# Altium schematic symbol library Capacitors.SchLib: 161 symbols (part 2 of 6)
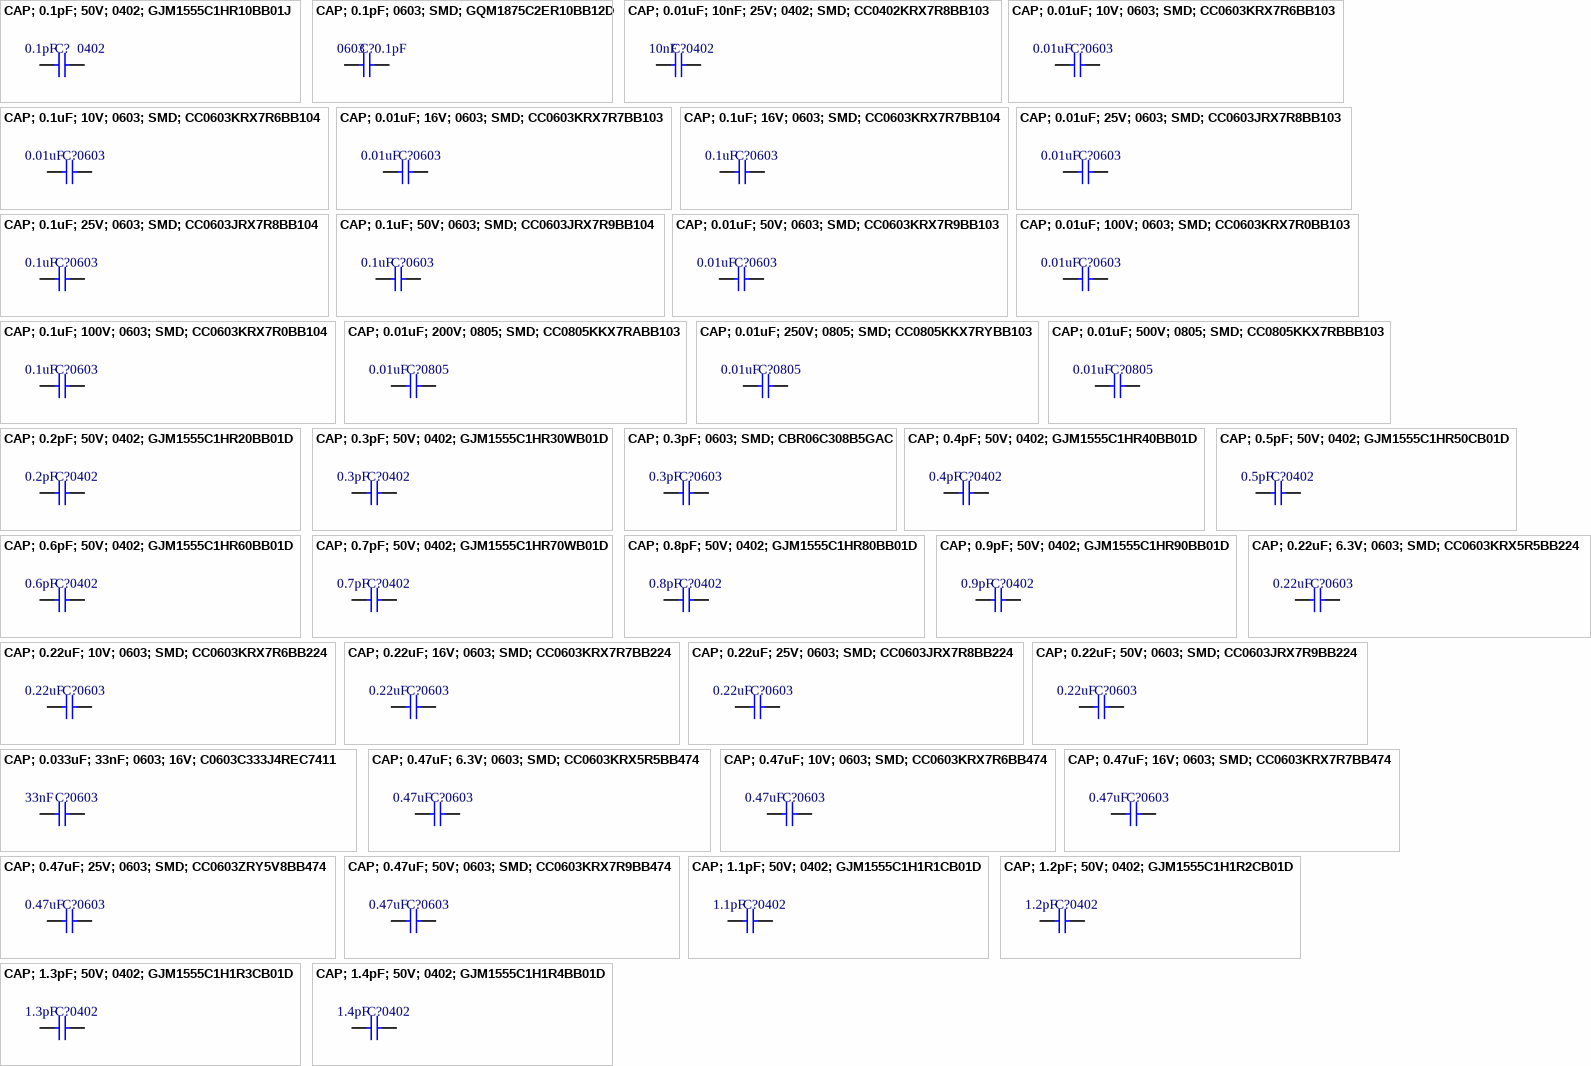
[diagram p5: symbols CAP; 0.1pF; 50V; 0402; GJM1555C1HR10BB01J to CAP; 1.4pF; 50V; 0402; GJM1555C1H1R4BB01D]

## CAP; 0.22uF; 25V; 0603; SMD; CC0603JRX7R8BB224
designator C?, comment value 0.22uF  Package: 0603  (hidden comment: 0.22 µF ±5% 25V Ceramic Capacitor X7R 0603 (1608 Metric))
Multilayer Ceramic Capacitor, 0.22 uF, 25 V, ± 5%, X7R, 0603 [1608 Metric]; Manufacturer: Yageo; Manufacturer Part Number: CC0603JRX7R8BB224; Designer: TVBac; Supplier: Digikey; Supplier Part Number: 311-3999-1-ND; RoHS: Yes; Category: Ceramic Capacitors; Stock: 82480; Pricing: 1=0.14, 10=0.092, 50=0.055, 100=0.0433, 500=0.03194, 1000=0.02644 (USD); Mounting Technology: Surface Mount; Case/Package: 0603; Case Code (Imperial): 0603; Case Code (Metric): 1608; Min Operating Temperature: -55°C; Max Operating Temperature: 125°C; Packaging: Tape and Reel; Voltage Rating: 25V; Tolerance: 5%; Voltage Rating (DC): 25V; Dielectric: X7R; Series: CC; Length: 0.063inch; Width: 0.031inch; Thickness: 0.035inch; Lead Free: Lead Free; Halogen Free: Halogen Free; ComponentLink1URL: https://www.yageo.com/upload/media/product/productsearch/datasheet/mlcc/UPY-GPHC_X7R_6.3V-to-50V_18.pdf?src-supplier=Digikey; ComponentLink1Description: https://www.yageo.com/upload/media/product/productsearch/datasheet/mlcc/UPY-GPHC_X7R_6.3V-to-50V_18.pdf?src-supplier=Digikey; ComponentLink2URL: http://www.yageo.com/documents/recent/UPY-GPHC_X7R_6.3V-to-50V_18.pdf?src-supplier=Digikey; ComponentLink2Description: http://www.yageo.com/documents/recent/UPY-GPHC_X7R_6.3V-to-50V_18.pdf?src-supplier=Digikey; ComponentLink3URL: http://www.yageo.com/exep/pages/download/literatures/ProductSelectionGuide%202014_Final_2.pdf?src-supplier=Digikey; ComponentLink3Description: http://www.yageo.com/exep/pages/download/literatures/ProductSelectionGuide%202014_Final_2.pdf?src-supplier=Digikey; ComponentLink4Description: Link Digikey; ComponentLink4URL: https://www.digikey.com/en/products/detail/yageo/CC0603JRX7R8BB224/5883662
footprint SMD-CAP-0603-YAGEO
pins: 1, 2

## CAP; 0.22uF; 50V; 0603; SMD; CC0603JRX7R9BB224
designator C?, comment value 0.22uF  Package: 0603  (hidden comment: 0.22 µF ±5% 50V Ceramic Capacitor X7R 0603 (1608 Metric))
Surface Mount Ceramic Multilayer Capacitor 0.22uF 5% X7R 50V 0603 Paper T/R; Manufacturer: Yageo; Manufacturer Part Number: CC0603JRX7R9BB224; Dielectric: 1511DielectricType; Designer: TVBac; Supplier: Digikey; Supplier Part Number: 13-CC0603JRX7R9BB224CT-ND; RoHS: Yes; Category: Ceramic Capacitors; Stock: 26044; Pricing: 1=0.19, 10=0.126, 50=0.0756, 100=0.0594, 500=0.0439, 1000=0.03634 (USD); Case/Package: 345Case; Voltage Rating (DC): 50V; Halogen Free: 5694HalogenFree; Lead Free: 5697LeadFree; ComponentLink1URL: https://datasheet.octopart.com/CC0603JRX7R9BB224-Yageo-datasheet-151948686.pdf?src-supplier=Farnell; ComponentLink1Description: https://datasheet.octopart.com/CC0603JRX7R9BB224-Yageo-datasheet-151948686.pdf?src-supplier=Farnell; ComponentLink2Description: Link Digikey; ComponentLink2URL: https://www.digikey.com/en/products/detail/yageo/CC0603JRX7R9BB224/11490865
footprint SMD-CAP-0603-YAGEO
pins: 1, 2

## CAP; 0.033uF; 33nF; 0603; 16V; C0603C333J4REC7411
designator C?, comment value 33nF  Package: 0603  (hidden comment: 0.033 µF ±5% 16V Ceramic Capacitor X7R 0603 (1608 Metric))
Multilayer Ceramic Capacitors MLCC - SMD/SMT 16V 0.033uF X7R 0603 5%; Manufacturer: KEMET; Manufacturer Part Number: C0603C333J4REC7411; Designer: TVBac; Supplier: Mouser; Supplier Part Number: 80-C0603C333J4RECLR; RoHS: Yes; Category: Ceramic Capacitors; Stock: 17910; Pricing: 1=0.13, 10=0.057, 50=0.057, 100=0.033, 1000=0.025, 2500=0.022, 10000=0.02, 15000=0.018, 45000=0.017, 90000=0.014 (USD); ComponentLink1URL: https://api.kemet.com/component-edge/download/datasheet/C0603C333J4REC7411.pdf?src-supplier=Digikey; ComponentLink1Description: https://api.kemet.com/component-edge/download/datasheet/C0603C333J4REC7411.pdf?src-supplier=Digikey; ComponentLink2Description: Link Digikey; ComponentLink2URL: https://www.digikey.com/en/products/detail/kemet/C0603C333J4REC7411/8645086
footprint SMD-CAP-0603-KEMET
pins: 1, 2

## CAP; 0.47uF; 6.3V; 0603; SMD; CC0603KRX5R5BB474
designator C?, comment value 0.47uF  Package: 0603  (hidden comment: 0.47 µF ±10% 6.3V Ceramic Capacitor X5R 0603 (1608 Metric))
Multilayer Ceramic Capacitor, 0.47 uF, 6.3 V, ± 10%, X5R, 0603 [1608 Metric]; Manufacturer: Yageo; Manufacturer Part Number: CC0603KRX5R5BB474; Material: 4241ConductorMaterial; Designer: TVBac; Supplier: Digikey; Supplier Part Number: 311-4040-1-ND; RoHS: Yes; Category: Ceramic Capacitors; Stock: 7492; Pricing: 1=0.15, 10=0.102, 50=0.061, 100=0.0481, 500=0.03548, 1000=0.02938 (USD); ComponentLink1URL: http://www.mouser.com/ds/2/447/UPY-GPHC_X5R_4V-to-50V_25-1131599.pdf?src-supplier=Mouser; ComponentLink1Description: http://www.mouser.com/ds/2/447/UPY-GPHC_X5R_4V-to-50V_25-1131599.pdf?src-supplier=Mouser; ComponentLink2URL: http://www.yageo.com/documents/recent/UPY-GPHC_X5R_4V-to-50V_25.pdf?src-supplier=Digikey; ComponentLink2Description: http://www.yageo.com/documents/recent/UPY-GPHC_X5R_4V-to-50V_25.pdf?src-supplier=Digikey; ComponentLink3URL: https://www.yageo.com/upload/media/product/productsearch/datasheet/mlcc/UPY-GPHC_X5R_4V-to-50V_26.pdf?src-supplier=Digikey; ComponentLink3Description: https://www.yageo.com/upload/media/product/productsearch/datasheet/mlcc/UPY-GPHC_X5R_4V-to-50V_26.pdf?src-supplier=Digikey; ComponentLink4URL: http://www.yageo.com/exep/pages/download/literatures/ProductSelectionGuide%202014_Final_2.pdf?src-supplier=Digikey; ComponentLink4Description: http://www.yageo.com/exep/pages/download/literatures/ProductSelectionGuide%202014_Final_2.pdf?src-supplier=Digikey; ComponentLink5URL: https://datasheet.octopart.com/CC0603KRX5R5BB474-Yageo-datasheet-137875056.pdf?src-supplier=Future+Electronics; ComponentLink5Description: https://datasheet.octopart.com/CC0603KRX5R5BB474-Yageo-datasheet-137875056.pdf?src-supplier=Future+Electronics; ComponentLink6URL: http://www.yageo.com/documents/recent/UPY-GPHC_X5R_4V-to-50V-16.pdf?src-supplier=Future+Electronics; ComponentLink6Description: http://www.yageo.com/documents/recent/UPY-GPHC_X5R_4V-to-50V-16.pdf?src-supplier=Future+Electronics; ComponentLink7Description: Link Digikey; ComponentLink7URL: https://www.digikey.com/en/products/detail/yageo/CC0603KRX5R5BB474/5883718
footprint SMD-CAP-0603-YAGEO
pins: 1, 2

## CAP; 0.47uF; 10V; 0603; SMD; CC0603KRX7R6BB474
designator C?, comment value 0.47uF  Package: 0603  (hidden comment: 0.47 µF ±10% 10V Ceramic Capacitor X7R 0603 (1608 Metric))
Multilayer Ceramic Capacitor, 0.47 uF, 10 V, ± 10%, X7R, 0603 [1608 Metric]; Manufacturer: Yageo; Manufacturer Part Number: CC0603KRX7R6BB474; Material: 4241ConductorMaterial; Designer: TVBac; Supplier: Digikey; Supplier Part Number: 311-1798-1-ND; RoHS: Yes; Category: Ceramic Capacitors; Stock: 103532; Pricing: 1=0.17, 10=0.116, 50=0.0694, 100=0.0546, 500=0.04036, 1000=0.03341 (USD); ComponentLink1URL: https://datasheet.ciiva.com/26862/getdatasheetpartid-251789-26862825.pdf?src-supplier=Verical; ComponentLink1Description: https://datasheet.ciiva.com/26862/getdatasheetpartid-251789-26862825.pdf?src-supplier=Verical; ComponentLink2URL: https://datasheet.ciiva.com/11786/0900766b80ce67ed-11786214.pdf?src-supplier=Rs; ComponentLink2Description: https://datasheet.ciiva.com/11786/0900766b80ce67ed-11786214.pdf?src-supplier=Rs; ComponentLink3URL: https://datasheet.ciiva.com/7978/1489800-7978137.pdf?src-supplier=Element14; ComponentLink3Description: https://datasheet.ciiva.com/7978/1489800-7978137.pdf?src-supplier=Element14; ComponentLink4URL: https://datasheet.ciiva.com/13209/upy-gphc-x7r-6-3v-to-50v-8-12304-13209775.pdf?src-supplier=Mouser; ComponentLink4Description: https://datasheet.ciiva.com/13209/upy-gphc-x7r-6-3v-to-50v-8-12304-13209775.pdf?src-supplier=Mouser; ComponentLink5Description: Link Digikey; ComponentLink5URL: https://www.digikey.com/en/products/detail/yageo/CC0603KRX7R6BB474/5195206
footprint SMD-CAP-0603-YAGEO
pins: 1, 2

## CAP; 0.47uF; 16V; 0603; SMD; CC0603KRX7R7BB474
designator C?, comment value 0.47uF  Package: 0603  (hidden comment: 0.47 µF ±10% 16V Ceramic Capacitor X7R 0603 (1608 Metric))
Multilayer Ceramic Capacitor, 0.47 uF, 16 V, ± 10%, X7R, 0603 [1608 Metric]; Manufacturer: Yageo; Manufacturer Part Number: CC0603KRX7R7BB474; Material: 4241ConductorMaterial; Designer: TVBac; Supplier: Digikey; Supplier Part Number: 311-1428-1-ND; RoHS: Yes; Category: Ceramic Capacitors; Stock: 23887; Pricing: 1=0.16, 10=0.11, 50=0.066, 100=0.0519, 500=0.03832, 1000=0.03173, 4000=0.02701, 8000=0.02513, 12000=0.02387, 28000=0.02262, 100000=0.01713, 200000=0.01671, 400000=0.01571 (USD); Voltage Rating (DC): 16V; Lead Free: 5697LeadFree; Halogen Free: 5694HalogenFree; ComponentLink1URL: https://datasheet.ciiva.com/26862/getdatasheetpartid-403574-26862831.pdf?src-supplier=Verical; ComponentLink1Description: https://datasheet.ciiva.com/26862/getdatasheetpartid-403574-26862831.pdf?src-supplier=Verical; ComponentLink2URL: https://datasheet.ciiva.com/176/mlccorderingcode-176901.pdf?src-supplier=Digikey; ComponentLink2Description: https://datasheet.ciiva.com/176/mlccorderingcode-176901.pdf?src-supplier=Digikey; ComponentLink3URL: https://datasheet.ciiva.com/176/mlccorderingcode-176902.pdf?src-supplier=Digikey; ComponentLink3Description: https://datasheet.ciiva.com/176/mlccorderingcode-176902.pdf?src-supplier=Digikey; ComponentLink4URL: https://datasheet.ciiva.com/176/mlccorderingcode-176903.pdf?src-supplier=Digikey; ComponentLink4Description: https://datasheet.ciiva.com/176/mlccorderingcode-176903.pdf?src-supplier=Digikey; ComponentLink5Description: Link Digikey; ComponentLink5URL: https://www.digikey.com/en/products/detail/yageo/CC0603KRX7R7BB474/2833593
footprint SMD-CAP-0603-YAGEO
pins: 1, 2

## CAP; 0.47uF; 25V; 0603; SMD; CC0603ZRY5V8BB474
designator C?, comment value 0.47uF  Package: 0603  (hidden comment: 0.47 µF -20%, +80% 25V Ceramic Capacitor Y5V (F) 0603 (1608 Metric))
CAP CER 0.47UF 25V Y5V 0603; Manufacturer: Yageo; Manufacturer Part Number: CC0603ZRY5V8BB474; Tolerance: 80%; Designer: TVBac; Supplier: Digikey; Supplier Part Number: 311-4119-1-ND; RoHS: Yes; Category: Ceramic Capacitors; Stock: 8693; Pricing: 1=0.11, 10=0.076, 50=0.0452, 100=0.0356, 500=0.02628, 1000=0.02175 (USD); Mounting Technology: Surface Mount; Case/Package: 0603; Case Code (Imperial): 0603; Case Code (Metric): 1608; Weight: 7.1E-05oz; Min Operating Temperature: -30°C; Max Operating Temperature: 85°C; Voltage Rating (DC): 25V; Packaging: Tape and Reel; Dielectric: Y5V; Termination: SMD/SMT; Voltage Rating: 25V; Series: CC; Length: 0.063inch; Width: 0.031inch; Thickness: 0.035inch; Lead Free: Lead Free; Halogen Free: Halogen Free; RoHS Compliant: Yes; ComponentLink1URL: http://www.mouser.com/ds/2/447/Yageo_UPY-GP_NP0_16V-to-50V_9-358835.pdf?src-supplier=Mouser; ComponentLink1Description: http://www.mouser.com/ds/2/447/Yageo_UPY-GP_NP0_16V-to-50V_9-358835.pdf?src-supplier=Mouser; ComponentLink2URL: http://www.yageo.com/documents/recent/UPY-GPHC_Y5V_6.3V-to-50V_8.pdf?src-supplier=Digikey; ComponentLink2Description: http://www.yageo.com/documents/recent/UPY-GPHC_Y5V_6.3V-to-50V_8.pdf?src-supplier=Digikey; ComponentLink3Description: Link Digikey; ComponentLink3URL: https://www.digikey.com/en/products/detail/yageo/CC0603ZRY5V8BB474/5883862
footprint SMD-CAP-0603-YAGEO
pins: 1, 2

## CAP; 0.47uF; 50V; 0603; SMD; CC0603KRX7R9BB474
designator C?, comment value 0.47uF  Package: 0603  (hidden comment: 0.47 µF ±10% 50V Ceramic Capacitor X7R 0603 (1608 Metric))
Multilayer Ceramic Capacitor, 0.47 uF, 50 V, ± 10%, X7R, 0603 [1608 Metric]; Manufacturer: Yageo; Manufacturer Part Number: CC0603KRX7R9BB474; Material: 4241ConductorMaterial; Dielectric: 1511DielectricType; Designer: TVBac; Supplier: Digikey; Supplier Part Number: 13-CC0603KRX7R9BB474CT-ND; RoHS: Yes; Category: Ceramic Capacitors; Stock: 38489; Pricing: 1=0.33, 10=0.22, 50=0.162, 100=0.1318, 500=0.10408, 1000=0.08789 (USD); Case/Package: 345Case; Min Operating Temperature: -55°C; Max Operating Temperature: 125°C; Voltage Rating: 50V; Voltage Rating (DC): 50V; Height: 900um; RoHS Compliant: Yes; Halogen Free: 5694HalogenFree; Lead Free: 5697LeadFree; ComponentLink1URL: https://datasheet.octopart.com/CC0603KRX7R9BB474-Yageo-datasheet-147453679.pdf?src-supplier=Newark; ComponentLink1Description: https://datasheet.octopart.com/CC0603KRX7R9BB474-Yageo-datasheet-147453679.pdf?src-supplier=Newark; ComponentLink2URL: https://datasheet.octopart.com/CC0603KRX7R9BB474-Yageo-datasheet-166511530.pdf?src-supplier=Future+Electronics; ComponentLink2Description: https://datasheet.octopart.com/CC0603KRX7R9BB474-Yageo-datasheet-166511530.pdf?src-supplier=Future+Electronics; ComponentLink3URL: https://datasheet.octopart.com/CC0603KRX7R9BB474-Yageo-datasheet-151948686.pdf?src-supplier=Farnell; ComponentLink3Description: https://datasheet.octopart.com/CC0603KRX7R9BB474-Yageo-datasheet-151948686.pdf?src-supplier=Farnell; ComponentLink4Description: Link Digikey; ComponentLink4URL: https://www.digikey.com/en/products/detail/yageo/CC0603KRX7R9BB474/12082403
footprint SMD-CAP-0603-YAGEO
pins: 1, 2

## CAP; 1.1pF; 50V; 0402; GJM1555C1H1R1CB01D
designator C?, comment value 1.1pF  Package: 0402  (hidden comment: Cap Ceramic 1.1pF 50V C0G 0.25pF SMD 0402 125°C Paper T/R)
Manufacturer: Murata; Manufacturer Part Number: GJM1555C1H1R1CB01D; Supplier: Mouser; Supplier Part Number: 81-GJM1555C1H1R1CB1D; RoHS: Yes; Category: Ceramic Capacitors; Stock: 17665; Pricing: 1=0.1, 10=0.032, 50=0.032, 100=0.021, 1000=0.013, 10000=0.007 (USD); ComponentLink1URL: https://datasheet.ciiva.com/132/product-132466.pdf?src-supplier=Digikey; ComponentLink1Description: https://datasheet.ciiva.com/132/product-132466.pdf?src-supplier=Digikey; ComponentLink2URL: https://datasheet.ciiva.com/132/partnumbering-e-01-132467.pdf?src-supplier=Digikey; ComponentLink2Description: https://datasheet.ciiva.com/132/partnumbering-e-01-132467.pdf?src-supplier=Digikey; ComponentLink3URL: https://datasheet.ciiva.com/132/partnumbering-e-01-132468.pdf?src-supplier=Digikey; ComponentLink3Description: https://datasheet.ciiva.com/132/partnumbering-e-01-132468.pdf?src-supplier=Digikey; Case Code (Imperial): 0402
footprint SMD-CAP-0402-ME
pins: 1, 2

## CAP; 1.2pF; 50V; 0402; GJM1555C1H1R2CB01D
designator C?, comment value 1.2pF  Package: 0402  (hidden comment: 0402 50 V 1.2 pF ±0.25 pF Tolerance C0G SMT Multilayer Ceramic Capacitor)
Manufacturer: Murata; Manufacturer Part Number: GJM1555C1H1R2CB01D; Material: 4241ConductorMaterial; Voltage Rating: 50V; Temperature Coefficient: 30ppm/°C; Supplier: Mouser; Supplier Part Number: 81-GJM1555C1H1R2CB1D; RoHS: Yes; Category: Ceramic Capacitors; Stock: 40199; Pricing: 1=0.11, 10=0.031, 50=0.031, 100=0.019, 1000=0.015, 10000=0.013 (USD); Mounting Technology: Surface Mount; Case/Package: 0402; Case Code (Imperial): 0402; Case Code (Metric): 1005; Min Operating Temperature: -55°C; Max Operating Temperature: 125°C; Packaging: Tape and Reel; Voltage Rating (DC): 50V; Package Quantity: 1; Dielectric: C0G; Termination: SMD/SMT; Voltage: 50V; Series: GJM; Construction: Flat; Length: 1mm; Width: 0.02inch; Height: 0.5mm; Thickness: 0.022inch; Depth: 0.5mm; Radiation Hardening: No; Lead Free: Lead Free; RoHS Compliant: Yes; ComponentLink1URL: https://datasheet.ciiva.com/132/product-132469.pdf?src-supplier=Digikey; ComponentLink1Description: https://datasheet.ciiva.com/132/product-132469.pdf?src-supplier=Digikey; ComponentLink2URL: https://datasheet.ciiva.com/132/partnumbering-e-01-132470.pdf?src-supplier=Digikey; ComponentLink2Description: https://datasheet.ciiva.com/132/partnumbering-e-01-132470.pdf?src-supplier=Digikey; ComponentLink3URL: https://datasheet.ciiva.com/132/partnumbering-e-01-132471.pdf?src-supplier=Digikey; ComponentLink3Description: https://datasheet.ciiva.com/132/partnumbering-e-01-132471.pdf?src-supplier=Digikey
footprint SMD-CAP-0402-ME
pins: 1, 2

## CAP; 1.3pF; 50V; 0402; GJM1555C1H1R3CB01D
designator C?, comment value 1.3pF  Package: 0402  (hidden comment: 0402 50 V 1.3 pF ±0.25 pF Tolerance C0G SMT Multilayer Ceramic Capacitor)
Manufacturer: Murata; Manufacturer Part Number: GJM1555C1H1R3CB01D; Supplier: Mouser; Supplier Part Number: 81-GJM1555C1H1R3CB1D; RoHS: Yes; Category: Ceramic Capacitors; Stock: 32928; Pricing: 1=0.1, 10=0.031, 50=0.031, 100=0.018, 1000=0.012, 10000=0.009 (USD); ComponentLink1URL: https://datasheet.ciiva.com/3778/8534gjm1555c1h1r3cb0123-3778203.pdf?src-supplier=Arrow+Electronics; ComponentLink1Description: https://datasheet.ciiva.com/3778/8534gjm1555c1h1r3cb0123-3778203.pdf?src-supplier=Arrow+Electronics; ComponentLink2URL: https://datasheet.ciiva.com/132/product-132400.pdf?src-supplier=Digikey; ComponentLink2Description: https://datasheet.ciiva.com/132/product-132400.pdf?src-supplier=Digikey; ComponentLink3URL: https://datasheet.ciiva.com/132/partnumbering-e-01-132401.pdf?src-supplier=Digikey; ComponentLink3Description: https://datasheet.ciiva.com/132/partnumbering-e-01-132401.pdf?src-supplier=Digikey; ComponentLink4URL: https://datasheet.ciiva.com/132/partnumbering-e-01-132402.pdf?src-supplier=Digikey; ComponentLink4Description: https://datasheet.ciiva.com/132/partnumbering-e-01-132402.pdf?src-supplier=Digikey; Case Code (Imperial): 0402
footprint SMD-CAP-0402-ME
pins: 1, 2

## CAP; 1.4pF; 50V; 0402; GJM1555C1H1R4BB01D
designator C?, comment value 1.4pF  Package: 0402  (hidden comment: Multilayer Ceramic Capacitors MLCC - SMD/SMT 0402 1.4pF 50Volts C0G +/-0.1pF)
Manufacturer: Murata; Manufacturer Part Number: GJM1555C1H1R4BB01D; Material: 4241ConductorMaterial; Supplier: Mouser; Supplier Part Number: 81-GJM1555C1H1R4BB1D; RoHS: Yes; Category: Ceramic Capacitors; Stock: 7436; Pricing: 1=0.1, 10=0.047, 50=0.047, 100=0.029, 1000=0.021, 10000=0.012 (USD); ComponentLink1URL: https://datasheet.ciiva.com/166/product-166994.pdf?src-supplier=Digikey; ComponentLink1Description: https://datasheet.ciiva.com/166/product-166994.pdf?src-supplier=Digikey; Case Code (Imperial): 0402
footprint SMD-CAP-0402-ME
pins: 1, 2

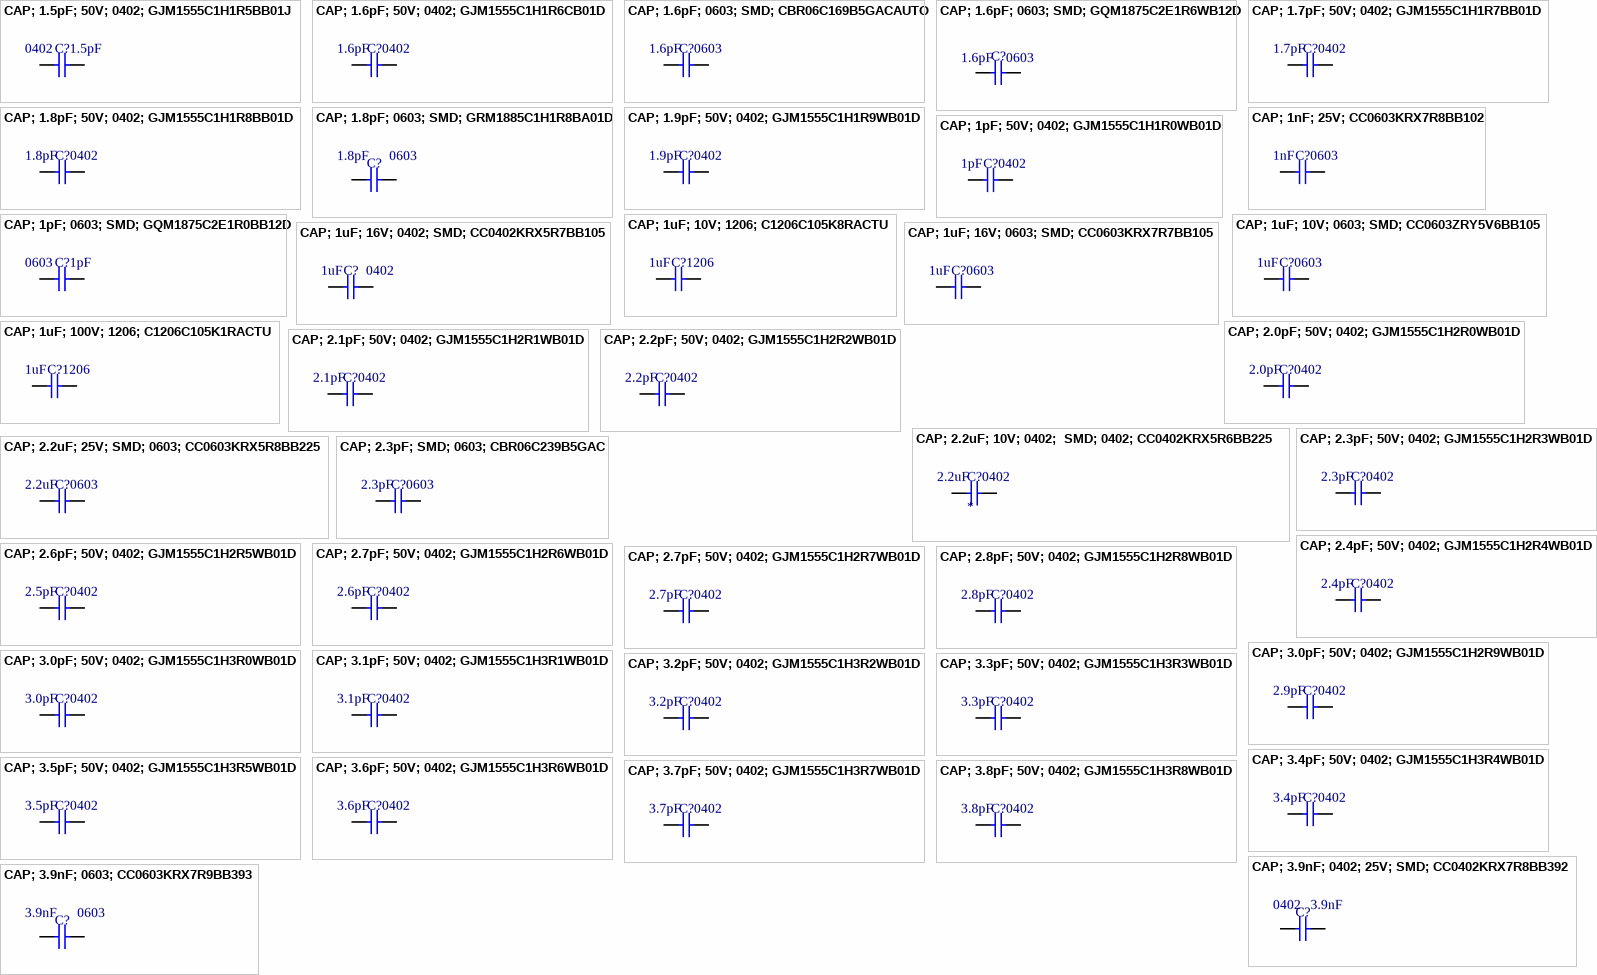
[diagram p1: symbols CAP; 1.5pF; 50V; 0402; GJM1555C1H1R5BB01J to CAP; 3.9nF; 0603; CC0603KRX7R9BB393]

## CAP; 1.5pF; 50V; 0402; GJM1555C1H1R5BB01J
designator C?, comment value 1.5pF  Package: 0402  (hidden comment: Cap Ceramic 1.5pF 50V C0G 0.1pF SMD 0402 125°C Paper T/R)
Manufacturer: Murata; Manufacturer Part Number: GJM1555C1H1R5BB01J; Material: 4241ConductorMaterial; Temperature Coefficient: 30ppm/°C; Supplier: Mouser; Supplier Part Number: 81-GJM1555C1H1R5BB1J; RoHS: Yes; Category: Ceramic Capacitors; Stock: 67799; Pricing: 1=0.1, 10=0.051, 50=0.051, 100=0.032, 500=0.027, 1000=0.021, 2500=0.018, 10000=0.017, 50000=0.017 (USD); Mounting Technology: Surface Mount; Case/Package: 0402; Case Code (Imperial): 0402; Case Code (Metric): 1005; Min Operating Temperature: -55°C; Max Operating Temperature: 125°C; Voltage Rating: 50V; Voltage Rating (DC): 50V; Packaging: Tape and Reel; Package Quantity: 50000; Dielectric: C0G; Termination: SMD/SMT; Series: GJM; Construction: Flat; Length: 1mm; Width: 0.5mm; Height: 0.5mm; Depth: 0.5mm; Thickness: 500um; Radiation Hardening: No; RoHS Compliant: Yes; ComponentLink1URL: http://www.mouser.com/ds/2/281/c02e-2905.pdf?src-supplier=Mouser; ComponentLink1Description: http://www.mouser.com/ds/2/281/c02e-2905.pdf?src-supplier=Mouser; ComponentLink2URL: http://search.murata.co.jp/Ceramy/image/img/PDF/ENG/GJM1555C1H1R5BB01.pdf?src-supplier=Avnet; ComponentLink2Description: http://search.murata.co.jp/Ceramy/image/img/PDF/ENG/GJM1555C1H1R5BB01.pdf?src-supplier=Avnet
footprint SMD-CAP-0402-ME
pins: 1, 2

## CAP; 1.6pF; 50V; 0402; GJM1555C1H1R6CB01D
designator C?, comment value 1.6pF  Package: 0402  (hidden comment: 0402 1.6 pF 50 V ±0.25 pF Tolerance C0G SMT Multilayer Ceramic Capacitor)
Manufacturer: Murata; Manufacturer Part Number: GJM1555C1H1R6CB01D; Supplier: Mouser; Supplier Part Number: 81-GJM1555C1H1R6CB01; RoHS: Yes; Category: Ceramic Capacitors; Stock: 31620; Pricing: 1=0.1, 10=0.031, 50=0.031, 100=0.018, 1000=0.018, 10000=0.009 (USD); ComponentLink1URL: https://datasheet.ciiva.com/161/product-161712.pdf?src-supplier=Digikey; ComponentLink1Description: https://datasheet.ciiva.com/161/product-161712.pdf?src-supplier=Digikey; ComponentLink2URL: https://datasheet.ciiva.com/16440/gjm1555c1h1r6cb01d-16440474.pdf?src-supplier=Future+Electronics; ComponentLink2Description: https://datasheet.ciiva.com/16440/gjm1555c1h1r6cb01d-16440474.pdf?src-supplier=Future+Electronics; ComponentLink3URL: https://datasheet.ciiva.com/161/partnumbering-e-01-161713.pdf?src-supplier=Digikey; ComponentLink3Description: https://datasheet.ciiva.com/161/partnumbering-e-01-161713.pdf?src-supplier=Digikey; ComponentLink4URL: https://datasheet.ciiva.com/161/partnumbering-e-01-161714.pdf?src-supplier=Digikey; ComponentLink4Description: https://datasheet.ciiva.com/161/partnumbering-e-01-161714.pdf?src-supplier=Digikey; Case Code (Imperial): 0402
footprint SMD-CAP-0402-ME
pins: 1, 2

## CAP; 1.6pF; 0603; SMD; CBR06C169B5GACAUTO
designator C?, comment value 1.6pF  Package: 0603  (hidden comment: 1.6 pF ±0.1pF 50V Ceramic Capacitor C0G, NP0 0603 (1608 Metric))
Cap Ceramic 1.6pF 50V C0G 0.1pF Pad SMD 0603 125C Automotive T/R; Manufacturer: KEMET; Manufacturer Part Number: CBR06C169B5GACAUTO; Designer: TVBac; Supplier: Arrow Electronics; Supplier Part Number: CBR06C169B5GACAUTO; RoHS: No; Category: Ceramic Capacitors; Stock: 2670; Pricing: 1=0.0966, 10=0.0509, 25=0.0502, 50=0.0497, 100=0.046, 250=0.0424, 500=0.0387, 1000=0.0351 (USD)
footprint SMD-CAP-0603-KEMET
pins: 1, 2

## CAP; 1.6pF; 0603; SMD; GQM1875C2E1R6WB12D
designator C?, comment value 1.6pF  Package: 0603  (hidden comment: 1.6 pF ±0.1pF 250V Ceramic Capacitor C0G, NP0 0603 (1608 Metric))
Cap Ceramic 1.6pF 250V C0G 0.05pF Pad SMD 0603 125Â°C T/R; MP: GQM1875C2E1R6WB12D; Designer: TVBac; Price: None; Availability: Unavailable
footprint SMD-CAP-0603-ME
pins: 1, 2

## CAP; 1.7pF; 50V; 0402; GJM1555C1H1R7BB01D
designator C?, comment value 1.7pF  Package: 0402  (hidden comment: Multilayer Ceramic Capacitor, 1.7 pF, 50 V, ± 0.1pF, C0G (NP0), 0402 [1005 Metric])
Manufacturer: Murata; Manufacturer Part Number: GJM1555C1H1R7BB01D; Material: 4241ConductorMaterial; Temperature Coefficient: 30ppm/°C; Supplier: Mouser; Supplier Part Number: 81-GJM1555C1H1R7BB1D; RoHS: Yes; Category: Ceramic Capacitors; Stock: 10999; Pricing: 1=0.1, 10=0.048, 50=0.048, 100=0.031, 1000=0.021, 10000=0.012 (USD); ComponentLink1URL: https://datasheet.ciiva.com/6270/product-6270540.pdf?src-supplier=Digikey; ComponentLink1Description: https://datasheet.ciiva.com/6270/product-6270540.pdf?src-supplier=Digikey; ComponentLink2URL: https://datasheet.ciiva.com/6270/partnumbering-e-01-6270541.pdf?src-supplier=Digikey; ComponentLink2Description: https://datasheet.ciiva.com/6270/partnumbering-e-01-6270541.pdf?src-supplier=Digikey; ComponentLink3URL: https://datasheet.ciiva.com/6270/partnumbering-e-01-6270542.pdf?src-supplier=Digikey; ComponentLink3Description: https://datasheet.ciiva.com/6270/partnumbering-e-01-6270542.pdf?src-supplier=Digikey; Case Code (Imperial): 0402
footprint SMD-CAP-0402-ME
pins: 1, 2

## CAP; 1.8pF; 50V; 0402; GJM1555C1H1R8BB01D
designator C?, comment value 1.8pF  Package: 0402  (hidden comment: Multilayer Ceramic Capacitor, 1.8 pF, 50 V, ï¿½ 0.1pF, C0G (NP0), 0402 [1005 Metric])
Manufacturer: Murata; Manufacturer Part Number: GJM1555C1H1R8BB01D; Voltage Rating: 50V; Temperature Coefficient: 30ppm/°C; Supplier: Mouser; Supplier Part Number: 81-GJM1555C1H1R8BB01; RoHS: Yes; Category: Ceramic Capacitors; Stock: 158122; Pricing: 1=0.11, 10=0.057, 50=0.057, 100=0.034, 500=0.029, 1000=0.029, 10000=0.017 (USD); Mounting Technology: Surface Mount; Case/Package: 0402; Pins: 2; Case Code (Metric): 1005; Case Code (Imperial): 0402; Material: Ceramic; Min Operating Temperature: -55°C; Max Operating Temperature: 125°C; Packaging: Tape and Reel; Package Quantity: 1; Dielectric: C0G; Voltage Rating (DC): 50V; Termination: SMD/SMT; Voltage: 50V; Series: GJM; Construction: Flat; Length: 1mm; Width: 0.5mm; Height: 0.5mm; Thickness: 0.022inch; Lead Pitch: 0.3mm; Depth: 0.5mm; Radiation Hardening: No; Reach SVHC Compliant: No; Lead Free: Lead Free; RoHS Compliant: Yes; ComponentLink1URL: https://datasheet.ciiva.com/5694/1700192-5694976.pdf?src-supplier=Farnell; ComponentLink1Description: https://datasheet.ciiva.com/5694/1700192-5694976.pdf?src-supplier=Farnell; ComponentLink2URL: https://datasheet.ciiva.com/11615/product-11615590.pdf?src-supplier=Avnet; ComponentLink2Description: https://datasheet.ciiva.com/11615/product-11615590.pdf?src-supplier=Avnet; ComponentLink3URL: https://datasheet.ciiva.com/8030/1303334-8030110.pdf?src-supplier=Element14; ComponentLink3Description: https://datasheet.ciiva.com/8030/1303334-8030110.pdf?src-supplier=Element14; ComponentLink4URL: https://datasheet.ciiva.com/22732/1303334-22732102.pdf?src-supplier=Element14; ComponentLink4Description: https://datasheet.ciiva.com/22732/1303334-22732102.pdf?src-supplier=Element14; ComponentLink5URL: https://datasheet.ciiva.com/29542/partnumbering-e-01-29542602.pdf?src-supplier=Digikey; ComponentLink5Description: https://datasheet.ciiva.com/29542/partnumbering-e-01-29542602.pdf?src-supplier=Digikey; ComponentLink6URL: https://datasheet.ciiva.com/29542/partnumbering-e-01-29542601.pdf?src-supplier=Digikey; ComponentLink6Description: https://datasheet.ciiva.com/29542/partnumbering-e-01-29542601.pdf?src-supplier=Digikey; ComponentLink7URL: https://datasheet.ciiva.com/29542/partnumbering-e-01-29542603.pdf?src-supplier=Digikey; ComponentLink7Description: https://datasheet.ciiva.com/29542/partnumbering-e-01-29542603.pdf?src-supplier=Digikey; ComponentLink8URL: https://datasheet.ciiva.com/16440/l0005e-16440475.pdf?src-supplier=Future+Electronics; ComponentLink8Description: https://datasheet.ciiva.com/16440/l0005e-16440475.pdf?src-supplier=Future+Electronics
footprint SMD-CAP-0402-ME
pins: 1, 2

## CAP; 1.8pF; 0603; SMD; GRM1885C1H1R8BA01D
designator C?, comment value 1.8pF  Package: 0603  (hidden comment: 1.8 pF ±0.1pF 50V Ceramic Capacitor C0G, NP0 0603 (1608 Metric))
CAP CER 1.8PF 50V C0G/NP0 0603; Manufacturer: Murata; Manufacturer Part Number: GRM1885C1H1R8BA01D; Supplier: Digikey; Supplier Part Number: 490-12717-1-ND; RoHS: Yes; Category: Ceramic Capacitors; Stock: 14994; Pricing: 1=0.13, 10=0.073, 100=0.0443, 1000=0.02947 (USD); Mounting Technology: Surface Mount; Case/Package: 0603; Case Code (Metric): 1608; Case Code (Imperial): 0603; Material: Ceramic; Weight: 0.000222oz; Min Operating Temperature: -55°C; Max Operating Temperature: 125°C; Package Quantity: 4000; Packaging: Tape and Reel; Voltage Rating: 50V; Dielectric: C0G; Termination: SMD/SMT; Voltage: 50V; Voltage Rating (DC): 50V; Series: GRM; Length: 1.6mm; Width: 0.8mm; Height: 0.8mm; Thickness: 0.035inch; Depth: 0.8mm; RoHS Compliant: Yes; ComponentLink1URL: http://www.mouser.com/ds/2/281/c02e-2905.pdf?src-supplier=Mouser; ComponentLink1Description: http://www.mouser.com/ds/2/281/c02e-2905.pdf?src-supplier=Mouser; ComponentLink2URL: https://www.murata.com/~/media/webrenewal/support/library/catalog/products/capacitor/mlcc/c02e.ashx?la=en-us&src-supplier=Digikey; ComponentLink2Description: https://www.murata.com/~/media/webrenewal/support/library/catalog/products/capacitor/mlcc/c02e.ashx?la=en-us&src-supplier=Digikey; ComponentLink3URL: http://search.murata.co.jp/Ceramy/image/img/A01X/partnumbering_e_01.pdf?src-supplier=Digikey; ComponentLink3Description: http://search.murata.co.jp/Ceramy/image/img/A01X/partnumbering_e_01.pdf?src-supplier=Digikey; ComponentLink4URL: http://psearch.en.murata.com/capacitor/product/GRM1885C1H1R8BA01%23.pdf?src-supplier=Avnet; ComponentLink4Description: http://psearch.en.murata.com/capacitor/product/GRM1885C1H1R8BA01%23.pdf?src-supplier=Avnet
footprint SMD-CAP-0603-ME
pins: 1, 2

## CAP; 1.9pF; 50V; 0402; GJM1555C1H1R9WB01D
designator C?, comment value 1.9pF  Package: 0402  (hidden comment: Multilayer Ceramic Capacitor, 1.9 pF, 50 V, ± 0.05pF, C0G (NP0), 0402 [1005 Metric])
Manufacturer: Murata; Manufacturer Part Number: GJM1555C1H1R9WB01D; Material: 4241ConductorMaterial; Temperature Coefficient: 30ppm/°C; Supplier: Mouser; Supplier Part Number: 81-GJM1555C1H1R9WB1D; RoHS: Yes; Category: Ceramic Capacitors; Stock: 18018; Pricing: 1=0.12, 10=0.074, 50=0.074, 100=0.049, 500=0.042, 1000=0.032, 2500=0.028, 10000=0.024, 20000=0.02, 50000=0.019 (USD); ComponentLink1URL: https://datasheet.ciiva.com/169/product-169612.pdf?src-supplier=Digikey; ComponentLink1Description: https://datasheet.ciiva.com/169/product-169612.pdf?src-supplier=Digikey; Case Code (Imperial): 0402
footprint SMD-CAP-0402-ME
pins: 1, 2

## CAP; 1nF; 25V; CC0603KRX7R8BB102
designator C?, comment value 1nF  Package: 0603  (hidden comment: https://www.digikey.com/en/products/detail/yageo/CC0603KRX7R8BB102/5883772)
Multilayer Ceramic Capacitor, 1000 pF, 25 V, ± 10%, X7R, 0603 [1608 Metric]; Manufacturer: Yageo; Designer: TVBac; Supplier: Digikey; Supplier Part Number: 311-3589-1-ND; Manufacturer Part Number: CC0603KRX7R8BB102; RoHS: Yes; Category: Ceramic Capacitors; Stock: 217712; Pricing: 1=0.1, 10=0.035, 50=0.0234, 100=0.02, 500=0.01426, 1000=0.01249 (USD); ComponentLink1URL: https://datasheet.ciiva.com/13263/upy-gphc-x7r-6-3v-to-50v-8-12304-13263372.pdf?src-supplier=Mouser; ComponentLink1Description: https://datasheet.ciiva.com/13263/upy-gphc-x7r-6-3v-to-50v-8-12304-13263372.pdf?src-supplier=Mouser; ComponentLink2Description: Link Digikey; ComponentLink2URL: https://www.digikey.com/en/products/detail/yageo/CC0603KRX7R8BB102/5883772
footprint SMD-CAP-0603-YAGEO
pins: 1, 2

## CAP; 1pF; 50V; 0402; GJM1555C1H1R0WB01D
designator C?, comment value 1pF  Package: 0402  (hidden comment: 1 pF ±0.05pF 50V Ceramic Capacitor C0G, NP0 0402 (1005 Metric))
Multilayer Ceramic Capacitor, 1 pF, 50 V, ï¿½ 0.05pF, C0G (NP0), 0402 [1005 Metric]; Manufacturer: Murata; Manufacturer Part Number: GJM1555C1H1R0WB01D; Material: 4241ConductorMaterial; Temperature Coefficient: 30ppm/°C; Supplier: Mouser; Supplier Part Number: 81-GJM1555C1H1R0WB1D; RoHS: Yes; Category: Ceramic Capacitors; Stock: 5976; Pricing: 1=0.16, 10=0.097, 50=0.097, 100=0.055, 1000=0.044, 10000=0.025 (USD); Lead Free: 5697LeadFree; ComponentLink1URL: https://datasheet.ciiva.com/11616/product-11616304.pdf?src-supplier=Avnet; ComponentLink1Description: https://datasheet.ciiva.com/11616/product-11616304.pdf?src-supplier=Avnet; ComponentLink2Description: Link Digikey; ComponentLink2URL: https://www.digikey.com/en/products/detail/murata-electronics/GJM1555C1H1R0WB01D/2592867
footprint SMD-CAP-0402-ME
pins: 1, 2

## CAP; 1pF; 0603; SMD; GQM1875C2E1R0BB12D
designator C?, comment value 1pF  Package: 0603  (hidden comment: 1 pF ±0.1pF 250V Ceramic Capacitor C0G, NP0 0603 (1608 Metric))
Multilayer Ceramic Capacitor, 1 pF, 250 V, ± 0.1pF, C0G (NP0), 0603 [1608 Metric]; Manufacturer: Murata; Manufacturer Part Number: GQM1875C2E1R0BB12D; Supplier: Mouser; Supplier Part Number: 81-GQM1875C2E1R0BB2D; RoHS: Yes; Category: Ceramic Capacitors; Stock: 10787; Pricing: 1=0.37, 10=0.22, 50=0.22, 100=0.139, 1000=0.111, 10000=0.088 (USD); Mounting Technology: Surface Mount; Case/Package: 0603; Case Code (Metric): 1608; Case Code (Imperial): 0603; Min Operating Temperature: -55°C; Max Operating Temperature: 125°C; Packaging: Tape and Reel; Package Quantity: 1; Voltage Rating: 250V; Voltage Rating (DC): 250V; Dielectric: C0G; Termination: SMD/SMT; Series: GQM; Construction: Flat; Length: 1.6mm; Width: 0.031inch; Height: 0.7mm; Thickness: 0.031inch; Depth: 0.8mm; Radiation Hardening: No; RoHS Compliant: Yes; ComponentLink1URL: https://datasheet.ciiva.com/11616/product-11616306.pdf?src-supplier=Avnet; ComponentLink1Description: https://datasheet.ciiva.com/11616/product-11616306.pdf?src-supplier=Avnet; ComponentLink2URL: https://datasheet.ciiva.com/29541/partnumbering-e-01-29541771.pdf?src-supplier=Digikey; ComponentLink2Description: https://datasheet.ciiva.com/29541/partnumbering-e-01-29541771.pdf?src-supplier=Digikey; ComponentLink3URL: https://datasheet.ciiva.com/29541/partnumbering-e-01-29541772.pdf?src-supplier=Digikey; ComponentLink3Description: https://datasheet.ciiva.com/29541/partnumbering-e-01-29541772.pdf?src-supplier=Digikey; ComponentLink4URL: https://datasheet.ciiva.com/29541/partnumbering-e-01-29541773.pdf?src-supplier=Digikey; ComponentLink4Description: https://datasheet.ciiva.com/29541/partnumbering-e-01-29541773.pdf?src-supplier=Digikey
footprint SMD-CAP-0603-ME
pins: 1, 2

## CAP; 1uF; 10V; 0603; SMD; CC0603ZRY5V6BB105
designator C?, comment value 1uF  Package: 0603  (hidden comment: 1 µF -20%, +80% 10V Ceramic Capacitor Y5V (F) 0603 (1608 Metric))
Surface Mount Ceramic Multilayer Capacitor 1uF -20% to 80% Y5V 10V 0603 Paper T/R; Manufacturer: Yageo; Manufacturer Part Number: CC0603ZRY5V6BB105; Dielectric Material: 4241ConductorMaterial; Designer: TVBac; Supplier: Digikey; Supplier Part Number: 311-1357-1-ND; RoHS: Yes; Category: Ceramic Capacitors; Stock: 2070294; Pricing: 1=0.1, 10=0.041, 50=0.0234, 100=0.0182, 500=0.01366, 1000=0.01074 (USD); Voltage Rating (AC): 10V; Lead Free: 5697LeadFree; Halogen Free: 5694HalogenFree; ComponentLink1URL: https://datasheet.ciiva.com/23768/97931-23768032.pdf?src-supplier=Newark; ComponentLink1Description: https://datasheet.ciiva.com/23768/97931-23768032.pdf?src-supplier=Newark; ComponentLink2URL: https://datasheet.ciiva.com/144/mlccorderingcode-144397.pdf?src-supplier=Digikey; ComponentLink2Description: https://datasheet.ciiva.com/144/mlccorderingcode-144397.pdf?src-supplier=Digikey; ComponentLink3URL: https://datasheet.ciiva.com/144/mlccorderingcode-144398.pdf?src-supplier=Digikey; ComponentLink3Description: https://datasheet.ciiva.com/144/mlccorderingcode-144398.pdf?src-supplier=Digikey; ComponentLink4URL: https://datasheet.ciiva.com/144/mlccorderingcode-144399.pdf?src-supplier=Digikey; ComponentLink4Description: https://datasheet.ciiva.com/144/mlccorderingcode-144399.pdf?src-supplier=Digikey; ComponentLink5URL: https://datasheet.ciiva.com/5425/upy-gphc-y5v-6-3v-to-50v-5-5425434.pdf?src-supplier=Mouser; ComponentLink5Description: https://datasheet.ciiva.com/5425/upy-gphc-y5v-6-3v-to-50v-5-5425434.pdf?src-supplier=Mouser; ComponentLink6URL: https://datasheet.ciiva.com/7978/1132289-7978185.pdf?src-supplier=Element14; ComponentLink6Description: https://datasheet.ciiva.com/7978/1132289-7978185.pdf?src-supplier=Element14; ComponentLink7URL: https://datasheet.ciiva.com/8033/1132289-8033926.pdf?src-supplier=Element14; ComponentLink7Description: https://datasheet.ciiva.com/8033/1132289-8033926.pdf?src-supplier=Element14; ComponentLink8URL: https://datasheet.ciiva.com/8033/1132289-8033928.pdf?src-supplier=Element14; ComponentLink8Description: https://datasheet.ciiva.com/8033/1132289-8033928.pdf?src-supplier=Element14; ComponentLink9Description: Link Digikey; ComponentLink9URL: https://www.digikey.com/en/products/detail/yageo/CC0603ZRY5V6BB105/2103095
footprint SMD-CAP-0603-YAGEO
pins: 1, 2

## CAP; 1uF; 10V; 1206; C1206C105K8RACTU
designator C?, comment value 1uF  Package: 1206  (hidden comment: 1 µF ±10% 10V Ceramic Capacitor X7R 1206 (3216 Metric))
Cap Ceramic 1uF 10V X7R 10% SMD 1206 125°C Plastic T/R; Manufacturer: KEMET; Manufacturer Part Number: C1206C105K8RACTU; Designer: TVBac; Supplier: Mouser; Supplier Part Number: 80-C1206C105K8R; RoHS: Yes; Category: Ceramic Capacitors; Stock: 5272; Pricing: 1=0.53, 10=0.325, 50=0.325, 100=0.208, 1000=0.187, 10000=0.161 (USD); ComponentLink1URL: http://www.mouser.com/ds/2/212/KEM_C1002_X7R_SMD-1102033.pdf?src-supplier=Mouser; ComponentLink1Description: http://www.mouser.com/ds/2/212/KEM_C1002_X7R_SMD-1102033.pdf?src-supplier=Mouser; ComponentLink2URL: http://components.arrow.com/part/dataview/2628232S8615994N7429?src-supplier=Arrow+Electronics; ComponentLink2Description: http://components.arrow.com/part/dataview/2628232S8615994N7429?src-supplier=Arrow+Electronics; ComponentLink3URL: http://www.kemet.com/docfinder?Partnumber=C1206C105K8RACTU&src-supplier=Digikey; ComponentLink3Description: http://www.kemet.com/docfinder?Partnumber=C1206C105K8RACTU&src-supplier=Digikey; ComponentLink4Description: Link Digikey; ComponentLink4URL: https://www.digikey.com/en/products/detail/kemet/C1206C105K8RACTU/2215098
footprint SMD-CAP-1206-KEMET
pins: 1, 2

## CAP; 1uF; 16V; 0402; SMD; CC0402KRX5R7BB105
designator C?, comment value 1uF  Package: 0402  (hidden comment: 1 µF ±10% 16V Ceramic Capacitor X5R 0402 (1005 Metric))
Multilayer Ceramic Capacitor, 1 Uf, 50 V, ½ 0.1PF, C0G (NP0), 0402 [1005 Metric]; Manufacturer: Yageo; Manufacturer Part Number: CC0402KRX5R7BB105; Material: 4241ConductorMaterial; Temperature Coefficient: 30ppm/°C; Supplier: Future Electronics; Supplier Part Number: 7066535; RoHS: Yes; Category: Ceramic Capacitors; Stock: 900000; Pricing: 10000=0.027, 20000=0.0266, 30000=0.0263, 40000=0.0262, 50000=0.0256 (USD); Mounting Technology: Surface Mount; Case/Package: 0402; Case Code (Imperial): 0402; Case Code (Metric): 1005; Weight: 2.3E-05oz; Min Operating Temperature: -55°C; Max Operating Temperature: 85°C; Tolerance: 10%; Packaging: Tape and Reel; Voltage Rating (DC): 16V; Dielectric: X5R; Voltage Rating: 16V; Termination: SMD/SMT; Series: CC; Length: 0.039inch; Width: 0.02inch; Thickness: 0.022inch; Lead Free: Lead Free; Halogen Free: Halogen Free; RoHS Compliant: Yes; ComponentLink1URL: http://www.mouser.com/ds/2/447/UPY-GPHC_X5R_4V-to-50V_25-1131599.pdf?src-supplier=Mouser; ComponentLink1Description: http://www.mouser.com/ds/2/447/UPY-GPHC_X5R_4V-to-50V_25-1131599.pdf?src-supplier=Mouser; ComponentLink2URL: http://www.yageo.com/documents/recent/UPY-GPHC_X5R_4V-to-50V_25.pdf?src-supplier=Digikey; ComponentLink2Description: http://www.yageo.com/documents/recent/UPY-GPHC_X5R_4V-to-50V_25.pdf?src-supplier=Digikey; ComponentLink3URL: https://datasheet.octopart.com/CC0402KRX5R7BB105-Yageo-datasheet-137875056.pdf?src-supplier=Future+Electronics; ComponentLink3Description: https://datasheet.octopart.com/CC0402KRX5R7BB105-Yageo-datasheet-137875056.pdf?src-supplier=Future+Electronics; ComponentLink4URL: https://datasheet.octopart.com/CC0402KRX5R7BB105-Yageo-datasheet-140260304.pdf?src-supplier=Newark; ComponentLink4Description: https://datasheet.octopart.com/CC0402KRX5R7BB105-Yageo-datasheet-140260304.pdf?src-supplier=Newark
footprint SMD-CAP-0402-YAGEO
pins: 1, 2

## CAP; 1uF; 16V; 0603; SMD; CC0603KRX7R7BB105
designator C?, comment value 1uF  Package: 0603  (hidden comment: 1 µF ±10% 16V Ceramic Capacitor X7R 0603 (1608 Metric))
0603 1 uF 16 V ±10 % Tolerance X7R SMT Multilayer Ceramic Capacitor; Manufacturer: Yageo; Manufacturer Part Number: CC0603KRX7R7BB105; Material: 4241ConductorMaterial; Dissipation Factor: 5%; Designer: TVBac; Supplier: Digikey; Supplier Part Number: 311-1446-1-ND; RoHS: Yes; Category: Ceramic Capacitors; Stock: 9165861; Pricing: 1=0.1, 10=0.066, 50=0.0392, 100=0.0308, 500=0.02274, 1000=0.01882, 4000=0.01785, 8000=0.01626, 12000=0.01545, 20000=0.01456, 28000=0.01404, 40000=0.01353, 100000=0.01313 (USD); Mounting Technology: Surface Mount; Case/Package: 0603; Pins: 2; Case Code (Metric): 1608; Case Code (Imperial): 0603; Min Operating Temperature: -55°C; Max Operating Temperature: 125°C; Tolerance: 10%; Voltage Rating: 16V; Package Quantity: 1; Packaging: Tape and Reel; Voltage Rating (DC): 16V; Dielectric: X7R; Termination: SMD/SMT; Voltage: 16V; Series: CC; Construction: Flat; Length: 1.6mm; Width: 0.031inch; Height: 0.8mm; Thickness: 0.035inch; Depth: 0.8mm; Radiation Hardening: No; RoHS Compliant: Yes; Reach SVHC Compliant: Unknown; Lead Free: 5697LeadFree; Halogen Free: 5694HalogenFree; ComponentLink1URL: https://datasheet.ciiva.com/8033/1734573-8033801.pdf?src-supplier=Element14; ComponentLink1Description: https://datasheet.ciiva.com/8033/1734573-8033801.pdf?src-supplier=Element14; ComponentLink2URL: https://datasheet.ciiva.com/8033/1734573-8033800.pdf?src-supplier=Element14; ComponentLink2Description: https://datasheet.ciiva.com/8033/1734573-8033800.pdf?src-supplier=Element14; ComponentLink3URL: https://datasheet.ciiva.com/7978/1489800-7978143.pdf?src-supplier=Element14; ComponentLink3Description: https://datasheet.ciiva.com/7978/1489800-7978143.pdf?src-supplier=Element14; ComponentLink4URL: https://datasheet.ciiva.com/28450/1489800-28450557.pdf?src-supplier=Element14; ComponentLink4Description: https://datasheet.ciiva.com/28450/1489800-28450557.pdf?src-supplier=Element14; ComponentLink5URL: https://datasheet.ciiva.com/176/mlccorderingcode-176789.pdf?src-supplier=Digikey; ComponentLink5Description: https://datasheet.ciiva.com/176/mlccorderingcode-176789.pdf?src-supplier=Digikey; ComponentLink6URL: https://datasheet.ciiva.com/176/mlccorderingcode-176788.pdf?src-supplier=Digikey; ComponentLink6Description: https://datasheet.ciiva.com/176/mlccorderingcode-176788.pdf?src-supplier=Digikey; ComponentLink7URL: https://datasheet.ciiva.com/176/mlccorderingcode-176790.pdf?src-supplier=Digikey; ComponentLink7Description: https://datasheet.ciiva.com/176/mlccorderingcode-176790.pdf?src-supplier=Digikey; ComponentLink8URL: https://datasheet.ciiva.com/5425/upy-gphc-x7r-6-3v-to-50v-8-12304-5425495.pdf?src-supplier=Mouser; ComponentLink8Description: https://datasheet.ciiva.com/5425/upy-gphc-x7r-6-3v-to-50v-8-12304-5425495.pdf?src-supplier=Mouser; ComponentLink9Description: Link Digikey; ComponentLink9URL: https://www.digikey.com/en/products/detail/yageo/CC0603KRX7R7BB105/2833611?s=N4IgTCBcDaIMJwAwDZEGYDSAlAGgdizwCEiBGRAVhAF0BfIA
footprint SMD-CAP-0603-YAGEO
pins: 1, 2

## CAP; 1uF; 100V; 1206; C1206C105K1RACTU
designator C?, comment value 1uF  Package: 1206  (hidden comment: 1 µF ±10% 100V Ceramic Capacitor X7R 1206 (3216 Metric))
Multilayer Ceramic Capacitor, 1 uF, 100 V, ± 10%, X7R, 1206 [3216 Metric]; Manufacturer: KEMET; Manufacturer Part Number: C1206C105K1RACTU; Material: 4241ConductorMaterial; Dissipation Factor: 2.5%; Designer: TVBac; Supplier: Mouser; Supplier Part Number: 80-C1206C105K1R; RoHS: Yes; Category: Ceramic Capacitors; Stock: 49348; Pricing: 1=0.49, 10=0.24, 50=0.24, 100=0.155, 1000=0.148, 10000=0.117 (USD); Mounting Technology: Surface Mount; Case/Package: 1206; Case Code (Metric): 3216; Case Code (Imperial): 1206; Weight: 0.000571oz; Dielectric Material: Ceramic; Min Operating Temperature: -55°C; Max Operating Temperature: 125°C; Packaging: Cut Tape; Voltage Rating: 100V; Dielectric: X7R; Voltage: 100V; Termination: SMD/SMT; Tolerance: 10%; Voltage Rating (DC): 100V; Package Quantity: 2000; Series: C; Length: 3.2mm; Width: 0.063inch; Height: 1.6mm; Thickness: 0.071inch; Depth: 1.6mm; Reach SVHC Compliant: No; RoHS Compliant: Yes; ComponentLink1URL: http://www.farnell.com/datasheets/2741188.pdf?src-supplier=Farnell; ComponentLink1Description: http://www.farnell.com/datasheets/2741188.pdf?src-supplier=Farnell; ComponentLink2URL: http://www.mouser.com/ds/2/212/KEM_C1002_X7R_SMD-357932.pdf?src-supplier=Mouser; ComponentLink2Description: http://www.mouser.com/ds/2/212/KEM_C1002_X7R_SMD-357932.pdf?src-supplier=Mouser; ComponentLink3URL: http://www.alliedelec.com/m/d/51f554c3dd800f51434b811e71a34895.pdf?src-supplier=Allied+Electronics; ComponentLink3Description: http://www.alliedelec.com/m/d/51f554c3dd800f51434b811e71a34895.pdf?src-supplier=Allied+Electronics; ComponentLink4URL: https://datasheet.octopart.com/C1206C105K1RACTU-KEMET-datasheet-74831901.pdf?src-supplier=Newark; ComponentLink4Description: https://datasheet.octopart.com/C1206C105K1RACTU-KEMET-datasheet-74831901.pdf?src-supplier=Newark; ComponentLink5URL: http://datasheet.octopart.com/C1206C105K1RACTU-Kemet-datasheet-46909923.pdf?src-supplier=Onlinecomponents.com; ComponentLink5Description: http://datasheet.octopart.com/C1206C105K1RACTU-Kemet-datasheet-46909923.pdf?src-supplier=Onlinecomponents.com; ComponentLink6URL: http://datasheet.octopart.com/C1206C105K1RACTU-Kemet-datasheet-46909923.pdf?src-supplier=Avnet; ComponentLink6Description: http://datasheet.octopart.com/C1206C105K1RACTU-Kemet-datasheet-46909923.pdf?src-supplier=Avnet; ComponentLink7URL: http://www.farnell.com/datasheets/2741188.pdf?src-supplier=Newark; ComponentLink7Description: http://www.farnell.com/datasheets/2741188.pdf?src-supplier=Newark; ComponentLink8URL: http://datasheet.octopart.com/C1206C105K1RACTU-Kemet-datasheet-46909923.pdf?src-supplier=Digikey; ComponentLink8Description: http://datasheet.octopart.com/C1206C105K1RACTU-Kemet-datasheet-46909923.pdf?src-supplier=Digikey; ComponentLink9URL: http://www.kemet.com/docfinder?Partnumber=C1206C105K1RACTU&src-supplier=Digikey; ComponentLink9Description: http://www.kemet.com/docfinder?Partnumber=C1206C105K1RACTU&src-supplier=Digikey; ComponentLink10URL: https://api.kemet.com/component-edge/download/datasheet/C1206C105K1RACTU.pdf?src-supplier=Digikey; ComponentLink10Description: https://api.kemet.com/component-edge/download/datasheet/C1206C105K1RACTU.pdf?src-supplier=Digikey; ComponentLink11URL: http://datasheet.octopart.com/C1206C105K1RACTU-Kemet-datasheet-46909923.pdf?src-supplier=Distrelec; ComponentLink11Description: http://datasheet.octopart.com/C1206C105K1RACTU-Kemet-datasheet-46909923.pdf?src-supplier=Distrelec; ComponentLink12URL: https://datasheet.octopart.com/C1206C105K1RACTU-Kemet-datasheet-46909923.pdf?src-supplier=Element14; ComponentLink12Description: https://datasheet.octopart.com/C1206C105K1RACTU-Kemet-datasheet-46909923.pdf?src-supplier=Element14; ComponentLink13URL: https://datasheet.octopart.com/C1206C105K1RACTU-KEMET-datasheet-145014209.pdf?src-supplier=Farnell; ComponentLink13Description: https://datasheet.octopart.com/C1206C105K1RACTU-KEMET-datasheet-145014209.pdf?src-supplier=Farnell; ComponentLink14URL: http://www.farnell.com/datasheets/2741188.pdf?src-supplier=Element14; ComponentLink14Description: http://www.farnell.com/datasheets/2741188.pdf?src-supplier=Element14; ComponentLink15URL: http://datasheet.octopart.com/C1206C105K1RACTU-Kemet-datasheet-46909923.pdf?src-supplier=NAC+Semi; ComponentLink15Description: http://datasheet.octopart.com/C1206C105K1RACTU-Kemet-datasheet-46909923.pdf?src-supplier=NAC+Semi; ComponentLink16URL: https://datasheet.octopart.com/C1206C105K1RACTU-KEMET-datasheet-158241793.pdf?src-supplier=TME; ComponentLink16Description: https://datasheet.octopart.com/C1206C105K1RACTU-KEMET-datasheet-158241793.pdf?src-supplier=TME; ComponentLink17URL: http://datasheet.octopart.com/C1206C105K1RACTU-Kemet-datasheet-46909923.pdf?src-supplier=Electro+Sonic; ComponentLink17Description: http://datasheet.octopart.com/C1206C105K1RACTU-Kemet-datasheet-46909923.pdf?src-supplier=Electro+Sonic; ComponentLink18Description: Link Digikey; ComponentLink18URL: https://www.digikey.com/en/products/detail/kemet/C1206C105K1RAC7800/5119820
footprint SMD-CAP-1206-KEMET
pins: 1, 2

## CAP; 2.0pF; 50V; 0402; GJM1555C1H2R0WB01D
designator C?, comment value 2.0pF  Package: 0402  (hidden comment: 0402 2 pF 50V ±0.05 pF Tolerance C0G SMT Multilayer Ceramic Capacitor)
Manufacturer: Murata; Manufacturer Part Number: GJM1555C1H2R0WB01D; Material: 4241ConductorMaterial; Temperature Coefficient: 30ppm/°C; Supplier: Mouser; Supplier Part Number: 81-GJM1555C1H2R0WB1D; RoHS: Yes; Category: Ceramic Capacitors; Stock: 112036; Pricing: 1=0.12, 10=0.073, 50=0.073, 100=0.048, 1000=0.035, 10000=0.019 (USD); Lead Free: 5697LeadFree; ComponentLink1URL: https://datasheet.ciiva.com/26843/getdatasheetpartid-724043-26843695.pdf?src-supplier=Verical; ComponentLink1Description: https://datasheet.ciiva.com/26843/getdatasheetpartid-724043-26843695.pdf?src-supplier=Verical; Case Code (Imperial): 0402
footprint SMD-CAP-0402-ME
pins: 1, 2

## CAP; 2.1pF; 50V; 0402; GJM1555C1H2R1WB01D
designator C?, comment value 2.1pF  Package: 0402  (hidden comment: Cap Ceramic 2.1pF 50V C0G 0.05pF SMD 0402 125°C Paper T/R)
Manufacturer: Murata; Manufacturer Part Number: GJM1555C1H2R1WB01D; Supplier: Mouser; Supplier Part Number: 81-GJM1555C1H2R1WB1D; RoHS: Yes; Category: Ceramic Capacitors; Stock: 20930; Pricing: 1=0.12, 10=0.074, 50=0.074, 100=0.049, 500=0.042, 1000=0.032, 2500=0.028, 10000=0.025, 20000=0.021, 50000=0.019 (USD); ComponentLink1URL: https://datasheet.ciiva.com/169/product-169613.pdf?src-supplier=Digikey; ComponentLink1Description: https://datasheet.ciiva.com/169/product-169613.pdf?src-supplier=Digikey; Case Code (Imperial): 0402
footprint SMD-CAP-0402-ME
pins: 1, 2